# Altium footprint library Inductor_IHLP2020CZER1R5M01_2-PIN.PcbLib: 1 footprints
Each footprint in its own frame and in the unit in brackets; x right, y up, seen from the top. Pads: shape width x height; smd on the part's side, far side on the other; paste and mask are expansions set on the pad; w line width, h text height; cw(c..) or ccw(c..) is an arc to the next point about the centre after c.
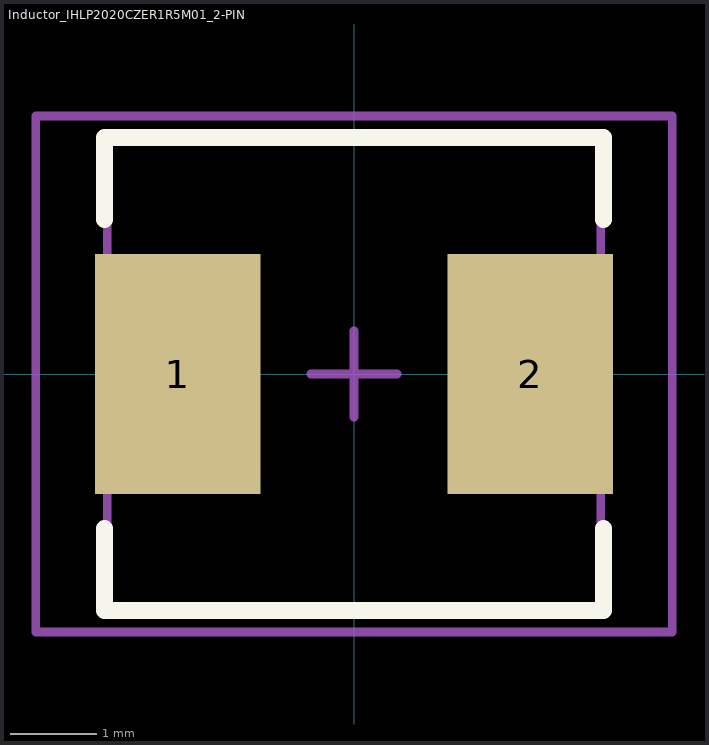
[diagram p0: the footprint, top view; thin cyan lines are the x and y axes]

## Inductor_IHLP2020CZER1R5M01_2-PIN [mm]
height 4.5
pads (2):
  rect 1.92x2.79 smd: 1(-2.05,0) 2(2.05,0)
Top Overlay:
  lines w0.2: -2.9,-1.795 -2.9,-2.75 2.9,-2.75 2.9,-1.795 ; -2.9,1.795 -2.9,2.75 2.9,2.75 2.9,1.795
Mechanical 13:
  lines w0.1: -2.87,-2.715 2.87,-2.715 2.87,2.715 -2.87,2.715 -2.87,-2.715
Mechanical 15:
  lines w0.1: -0.5,0 0.5,0 ; 0,-0.5 0,0.5 ; -3.7,-3 3.7,-3 3.7,3 -3.7,3 -3.7,-3
3D body: height 4.5, standoff 0, extent -2.87,-2.715 2.87,2.715